# Altium footprint library Trans_pcb.PcbLib: 72 footprints (part 4 of 5)
Each footprint in its own frame and in the unit in brackets; x right, y up, seen from the top. Pads: shape width x height; smd on the part's side, far side on the other; paste and mask are expansions set on the pad; w line width, h text height; cw(c..) or ccw(c..) is an arc to the next point about the centre after c.
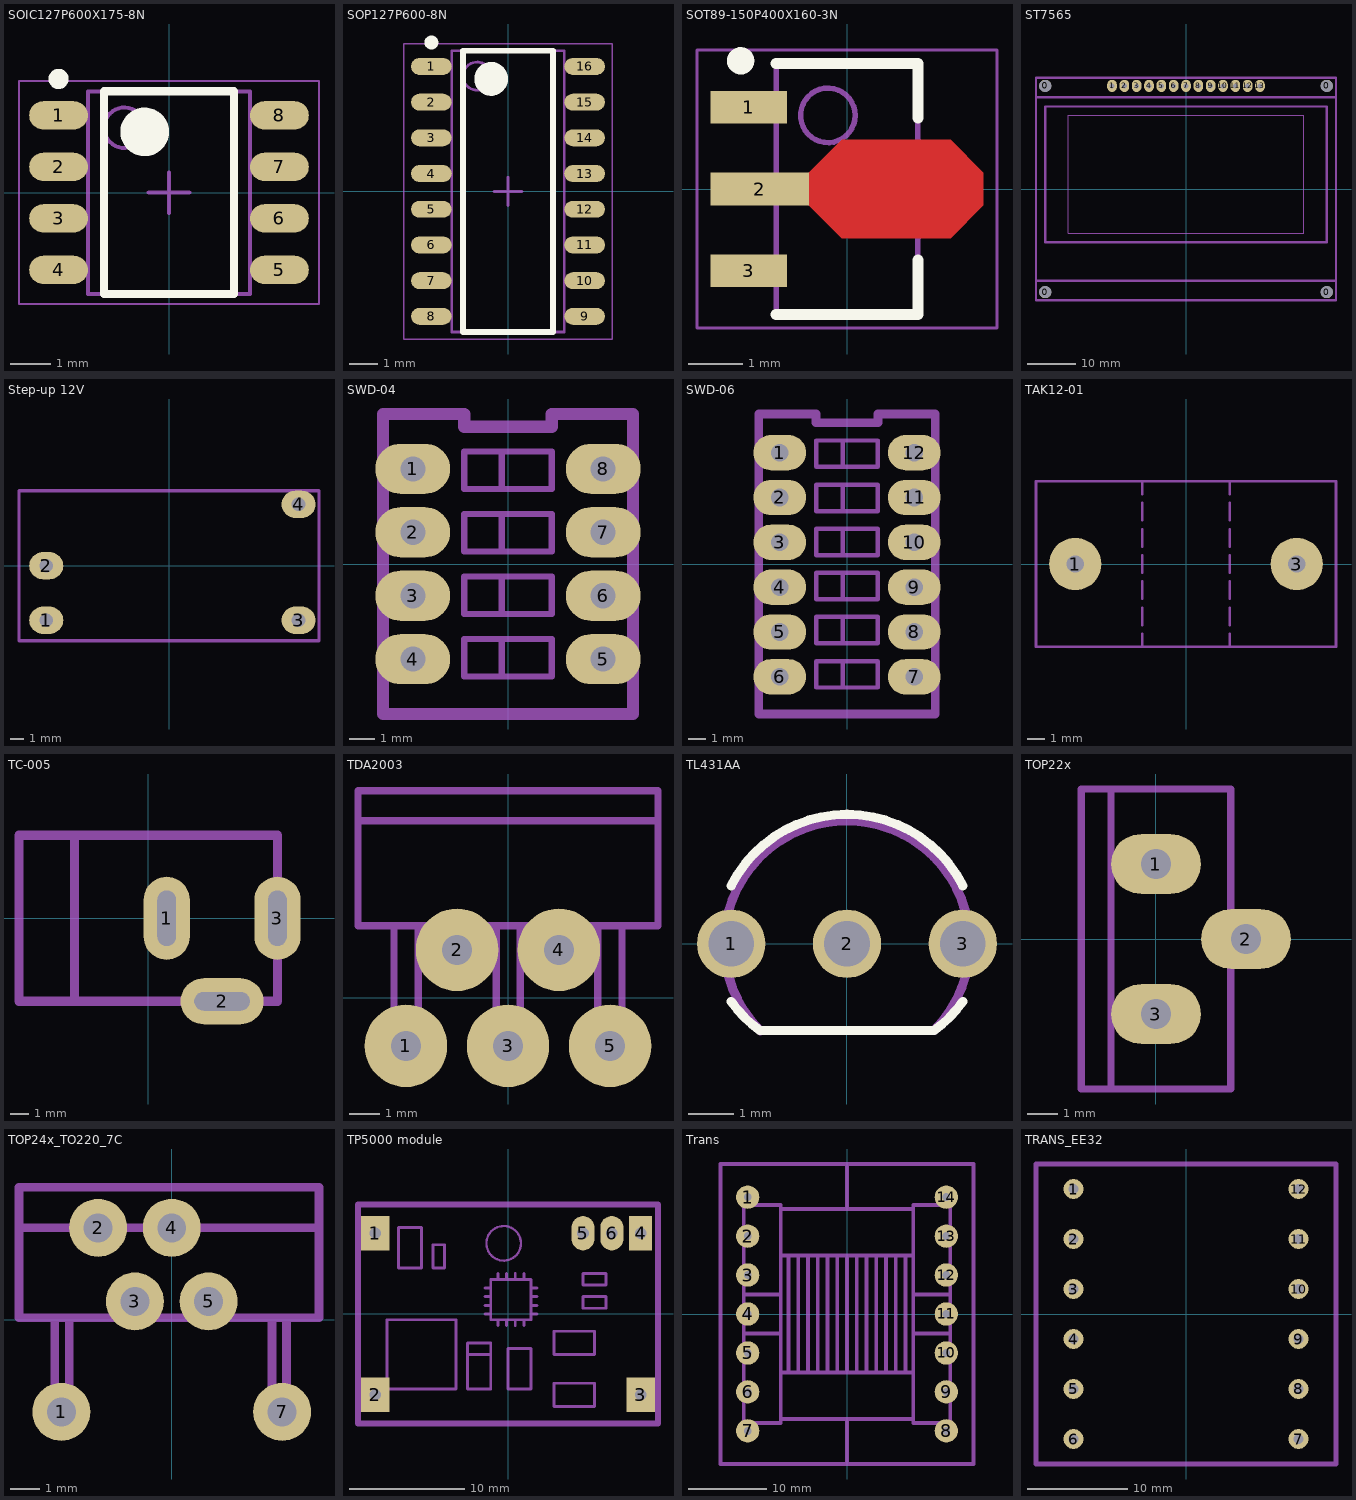
[diagram p3: the footprints below, top view; thin cyan lines are the x and y axes]

## SOIC127P600X175-8N [mm] "SOIC, 8-Leads, Body 4,90x3,90mm, Pitch 1,27mm, IPC Medium Density"
height 1.75
pads (8):
  oval 1.45x0.7 smd: 1(-2.725,1.905) 2(-2.725,0.635) 3(-2.725,-0.635) 4(-2.725,-1.905) 5(2.725,-1.905) 6(2.725,-0.635) 7(2.725,0.635) 8(2.725,1.905)
Top Overlay:
  circle w0.6: c-0.6,1.5 r0.3
  circle w0.25: c-2.725,2.805 r0.125
  lines w0.2: -1.6,-2.5 1.6,-2.5 1.6,2.5 -1.6,2.5 -1.6,-2.5
Mechanical 13:
  circle w0.1: c-1.1,1.6 r0.5
  lines w0.1: -2,-2.5 2,-2.5 2,2.5 -2,2.5 -2,-2.5
Mechanical 15:
  lines w0.05: -3.7,-2.75 3.7,-2.75 3.7,2.75 -3.7,2.75 -3.7,-2.75
  lines w0.1: -0.5,0 0.5,0 ; 0,-0.5 0,0.5
3D body: height 1.75, standoff 0.1, extent -2,-2.5 2,2.5

## SOP127P600-8N [mm] "TEA1751"
height 1.75
pads (16):
  oval 1.45x0.6 smd: 1(-2.725,4.445) 2(-2.725,3.175) 3(-2.725,1.905) 4(-2.725,0.635) 5(-2.725,-0.635) 6(-2.725,-1.905) 7(-2.725,-3.175) 8(-2.725,-4.445) 9(2.725,-4.445) 10(2.725,-3.175) 11(2.725,-1.905) 12(2.725,-0.635) 13(2.725,0.635) 14(2.725,1.905) 15(2.725,3.175) 16(2.725,4.445)
Top Overlay:
  circle w0.25: c-2.725,5.295 r0.125
  circle w0.6: c-0.6,4 r0.3
  lines w0.2: -1.6,-5 -1.6,5 1.6,5 1.6,-5 -1.6,-5
Mechanical 13:
  circle w0.1: c-1.1,4.1 r0.5
  lines w0.1: -2,-5 -2,5 2,5 2,-5 -2,-5
Mechanical 15:
  lines w0.05: -3.7,-5.25 -3.7,5.25 3.7,5.25 3.7,-5.25 -3.7,-5.25
  lines w0.1: -0.5,0 0.5,0 ; 0,-0.5 0,0.5
3D body: height 1.75, standoff 0.1, extent -2,-5 2,5

## SOT89-150P400X160-3N [mm] "SOT89, 3-Leads, Body 4,50x2,50mm, Pitch 1,50mm, Lead Span 4,0mm, IPC Medium Density"
height 1.6
pads (3):
  rect 1.4x0.6 smd: 1(-1.8,1.5) 3(-1.8,-1.5)
  rect 1.8x0.6 smd: 2(-1.6,0)
Top Layer:
  region: -0.7,0.3 -0.1,0.9 1.9,0.9 2.5,0.3 2.5,-0.3 1.9,-0.9 -0.1,-0.9 -0.7,-0.3
Top Overlay:
  circle w0.25: c-1.95,2.35 r0.125
  lines w0.2: -1.3,-2.3 1.3,-2.3 1.3,-1.3 ; -1.3,2.3 1.3,2.3 1.3,1.3
Mechanical 13:
  circle w0.1: c-0.35,1.35 r0.5
  lines w0.1: -1.3,-2.3 1.3,-2.3 1.3,2.3 -1.3,2.3 -1.3,-2.3
Mechanical 15:
  lines w0.05: -2.75,-2.55 2.75,-2.55 2.75,2.55 -2.75,2.55 -2.75,-2.55
  lines w0.1: -0.5,0 0.5,0 ; 0,-0.5 0,0.5
3D body: height 1.6, standoff 0, extent -1.3,-2.3 1.3,2.3

## ST7565 [mm]
pads (17):
  round 2.5 hole 2.5: 0(-29,-21.25) 0(-29,21.25) 0(29,-21.25) 0(29,21.25)
  oval 2x2.5 hole 1: 1(-15.24,21.25) 2(-12.7,21.25) 3(-10.16,21.25) 4(-7.62,21.25) 5(-5.08,21.25) 6(-2.54,21.25) 7(0,21.25) 8(2.54,21.25) 9(5.08,21.25) 10(7.62,21.25) 11(10.16,21.25) 12(12.7,21.25) 13(15.24,21.25)
Mechanical 13:
  lines w0.25: -24.3,-9.1 -24.3,15.2 24.3,15.2 24.3,-9.1 -24.3,-9.1
  lines w0.5: -30.9,-18.9 30.9,-18.9 ; -30.9,18.9 30.9,18.9 ; -30.9,-22.9 30.9,-22.9 30.9,22.9 -30.9,22.9 -30.9,-22.9 ; -29,-11 29,-11 29,17 -29,17 -29,-11

## Step-up 12V [mm]
pads (4):
  oval 2.5x2 hole 1: 1(-9,-4) 2(-9,0) 3(9.5,-4) 4(9.5,4.5)
Mechanical 13:
  lines w0.25: -11,-5.5 -11,5.5 11,5.5 11,-5.5 -11,-5.5

## SWD-04 [mm]
height 6.9
pads (8):
  oval 3x2 hole 1 unplated: 1(-3.81,3.81) 2(-3.81,1.27) 3(-3.81,-1.27) 4(-3.81,-3.81) 5(3.81,-3.81) 6(3.81,-1.27) 7(3.81,1.27) 8(3.81,3.81)
Mechanical 13:
  lines w0.25: -0.25,-4.5 -0.25,-3 ; -0.25,-2 -0.25,-0.5 ; -0.25,0.5 -0.25,2 ; -0.25,3 -0.25,4.5 ; -1.75,-4.5 -1.75,-3 1.75,-3 1.75,-4.5 -1.75,-4.5 ; -1.75,-2 -1.75,-0.5 1.75,-0.5 1.75,-2 -1.75,-2 ; -1.75,0.5 -1.75,2 1.75,2 1.75,0.5 -1.75,0.5 ; -1.75,3 -1.75,4.5 1.75,4.5 1.75,3 -1.75,3
  lines w0.5: -5,-6 5,-6 5,6 1.75,6 1.75,5.5 -1.75,5.5 -1.75,6 -5,6 -5,-6

## SWD-06 [mm]
height 6.9
pads (12):
  oval 3x2 hole 1 unplated: 1(-3.81,6.31) 2(-3.81,3.77) 3(-3.81,1.23) 4(-3.81,-1.31) 5(-3.81,-3.85) 6(-3.81,-6.39) 7(3.81,-6.39) 8(3.81,-3.85) 9(3.81,-1.31) 10(3.81,1.23) 11(3.81,3.77) 12(3.81,6.31)
Mechanical 13:
  lines w0.25: -0.25,-7 -0.25,-5.5 ; -0.25,-4.5 -0.25,-3 ; -0.25,-2 -0.25,-0.5 ; -0.25,0.5 -0.25,2 ; -0.25,3 -0.25,4.5 ; -0.25,5.5 -0.25,7 ; -1.75,-7 -1.75,-5.5 1.75,-5.5 1.75,-7 -1.75,-7 ; -1.75,-4.5 -1.75,-3 1.75,-3 1.75,-4.5 -1.75,-4.5 ; -1.75,-2 -1.75,-0.5 1.75,-0.5 1.75,-2 -1.75,-2 ; -1.75,0.5 -1.75,2 1.75,2 1.75,0.5 -1.75,0.5 ; -1.75,3 -1.75,4.5 1.75,4.5 1.75,3 -1.75,3 ; -1.75,5.5 -1.75,7 1.75,7 1.75,5.5 -1.75,5.5
  lines w0.5: -5,-8.5 5,-8.5 5,8.5 1.75,8.5 1.75,8 -1.75,8 -1.75,8.5 -5,8.5 -5,-8.5

## TAK12-01 [mm]
height 20.4
pads (2):
  round 3 hole 1: 1(-6.35,0) 3(6.35,0)
Mechanical 13:
  lines w0.15: -2.5,-4.75 -2.5,-4 ; -2.5,-3.5 -2.5,-2.5 ; -2.5,-2 -2.5,-1 ; -2.5,-0.5 -2.5,0.5 ; -2.5,1 -2.5,2 ; -2.5,2.5 -2.5,3.5 ; -2.5,4 -2.5,4.75 ; 2.5,-4.75 2.5,-4 ; 2.5,-3.5 2.5,-2.5 ; 2.5,-2 2.5,-1 ; 2.5,-0.5 2.5,0.5 ; 2.5,1 2.5,2 ; 2.5,2.5 2.5,3.5 ; 2.5,4 2.5,4.75 ; -8.6,-4.75 -8.6,4.75 8.6,4.75 8.6,-4.75 -8.6,-4.75

## TC-005 [mm]
height 10
pads (3):
  oval 2.5x4.5 hole 1 slot 3 at 90 deg unplated: 1(1,0) 3(7,0)
  oval 4.5x2.5 hole 1 slot 3 at 0 deg unplated: 2(4,-4.5)
Mechanical 13:
  lines w0.5: -4,-4.5 -4,4.5 ; -7,-4.5 -7,4.5 7,4.5 7,-4.5 -7,-4.5

## TDA2003 [mm]
pads (5):
  round 2.75 hole 1: 1(-3.4,-1.6) 2(-1.7,1.6) 3(0,-1.6) 4(1.7,1.6) 5(3.4,-1.6)
Mechanical 1:
  lines w0.25: -3.8,2.4 -3.8,-1.6 -3,-1.6 -3,2.4 ; -2.1,2.4 -2.1,1.5 -1.3,1.5 -1.3,2.4 ; -0.4,2.4 -0.4,-1.65 0.4,-1.65 0.4,2.3 ; 1.3,2.4 1.3,1.5 2.1,1.5 2.1,2.4 ; 3,2.4 3,-1.6 3.8,-1.6 3.8,2.4
Mechanical 13:
  lines w0.25: -5,5.9 5,5.9 ; -5,2.4 5,2.4 5,6.9 -5,6.9 -5,2.4

## TL431AA [mm]
height 5
pads (3):
  round 1.5 hole 1: 1(-2.54,0) 2(0,0) 3(2.54,0)
Top Overlay:
  lines w0.2: -2.541,-1.269 ccw(c-0.317,0.318) -1.904,-1.906 ; -2.539,1.272 cw(c0,0) 2.539,1.272 ; -1.905,-1.905 1.905,-1.905 ; 1.904,-1.906 ccw(c0.318,0.318) 2.541,-1.269
  text ".Designator" at -2.75,-3.75 h1.5
Mechanical 13:
  lines w0.2: -1.905,-1.905 1.905,-1.905 ; -1.902,-1.908 cw(c0,0) 1.908,-1.902
3D body "TO-92.STEP": height 6.5, standoff -2.2, extent -2.599,-1.923 2.599,2.6

## TOP22x [mm]
height 20
pads (3):
  oval 3x2 hole 1 unplated: 1(0,2.5) 2(3,0) 3(0,-2.5)
Mechanical 13:
  lines w0.25: -1.5,-5 -1.5,5 ; -2.5,-5 -2.5,5 2.5,5 2.5,-5 -2.5,-5

## TOP24x_TO220_7C [mm]
pads (6):
  round 2 hole 1: 1(-3.81,-3.175) 2(-2.54,3.175) 3(-1.27,0.635) 4(0,3.175) 5(1.27,0.635) 7(3.81,-3.175)
Mechanical 13:
  lines w0.3: -5.27,3.175 5.08,3.175 ; -4.04,0.075 -4.04,-3.325 -3.54,-3.325 -3.54,0.075 ; 3.46,0.075 3.46,-3.325 3.96,-3.325 3.96,0.075 ; -5.27,0.075 -5.27,4.575 5.08,4.575 5.08,0.075 -5.27,0.075

## TP5000 module [mm]
height 4.5
pads (6):
  rect 2.5x3 hole 1 unplated: 1(-11.5,7) 2(-11.5,-7) 3(11.5,-7)
  rect 2x3 hole 1 unplated: 4(11.5,7)
  oval 2x3 hole 1 unplated: 5(6.5,7) 6(9,7)
Mechanical 13:
  circle w0.2: c-0.375,6.125 r1.5
  lines w0.25: -3.5,-3.5 -1.5,-3.5 ; -2,0 -1.5,0 ; -2,0.75 -1.5,0.75 ; -2,1.5 -1.5,1.5 ; -2,2.25 -1.5,2.25 ; -0.875,-1 -0.875,-0.5 ; -0.875,3 -0.875,3.5 ; -0.125,-1 -0.125,-0.5 ; -0.125,3 -0.125,3.5 ; 0.625,-1 0.625,-0.5 ; 0.625,3 0.625,3.5 ; 1.375,-1 1.375,-0.5 ; 1.375,3 1.375,3.5 ; 2,0 2.5,0 ; 2,0.75 2.5,0.75 ; 2,1.5 2.5,1.5 ; 2,2.25 2.5,2.25 ; -10.5,-6.5 -10.5,-0.5 -4.5,-0.5 -4.5,-6.5 -10.5,-6.5 ; -9.5,4 -9.5,7.5 -7.5,7.5 -7.5,4 -9.5,4 ; -6.5,4 -6.5,6 -5.5,6 -5.5,4 -6.5,4 ; -3.5,-6.5 -3.5,-2.5 -1.5,-2.5 -1.5,-6.5 -3.5,-6.5 ; -1.5,-0.5 -1.5,3 2,3 2,-0.5 -1.5,-0.5 ; 0,-6.5 0,-3 2,-3 2,-6.5 0,-6.5 ; 4,-8 7.5,-8 7.5,-6 4,-6 4,-8 ; 4,-3.5 7.5,-3.5 7.5,-1.5 4,-1.5 4,-3.5 ; 6.5,0.5 8.5,0.5 8.5,1.5 6.5,1.5 6.5,0.5 ; 6.5,2.5 8.5,2.5 8.5,3.5 6.5,3.5 6.5,2.5
  lines w0.5: -13,-9.5 -13,9.5 13,9.5 13,-9.5 -13,-9.5

## Trans [mm]
height 35
pads (14):
  round 3 hole 1: 1(-12.75,15) 2(-12.75,10) 3(-12.75,5) 4(-12.75,0) 5(-12.75,-5) 6(-12.75,-10) 7(-12.75,-15) 8(12.75,-15) 9(12.75,-10) 10(12.75,-5) 11(12.75,0) 12(12.75,5) 13(12.75,10) 14(12.75,15)
Mechanical 13:
  lines w0.5: -13.25,-2.5 -8.5,-2.5 ; -13.25,2.5 -8.5,2.5 ; -8.5,7.25 -8.5,13.5 ; -7.5,-7.5 -7.5,7.5 ; -6.25,-7.5 -6.25,7.5 ; -5,-7.5 -5,7.5 ; -3.75,-7.5 -3.75,7.5 ; -2.5,-7.5 -2.5,7.5 ; -1.25,-7.5 -1.25,7.5 ; 0,-19.25 0,-13.5 ; 0,-7.5 0,7.5 ; 0,13.5 0,19.25 ; 1.25,-7.5 1.25,7.5 ; 2.5,-7.5 2.5,7.25 ; 3.75,-7.5 3.75,7.5 ; 5,-7.5 5,7.5 ; 6.25,-7.492 6.25,7.5 ; 7.5,-7.5 7.5,7.5 ; 8.5,-2.5 13.25,-2.5 ; 8.75,2.5 13,2.5 ; -8.5,-13.5 -8.5,-14 -13.25,-14 -13.25,14 -8.5,14 -8.5,13.5 ; -8.5,-13.5 -8.5,-7.5 ; -8.5,-13.5 8.5,-13.5 ; -8.5,-7.5 8.5,-7.5 ; -8.5,-7.5 -8.5,7.5 8.5,7.5 ; -8.5,13.5 8.5,13.5 ; 8.5,-13.5 8.5,-14 13.25,-14 13.25,14 8.5,14 8.5,13.5 ; 8.5,-13.5 8.5,-7.5 ; 8.5,-7.5 8.5,7.5 ; 8.5,7.5 8.5,13.5 ; -16.25,-19.25 16.25,-19.25 16.25,19.25 -16.25,19.25 -16.25,-19.25

## TRANS_EE32 [mm]
height 32
pads (12):
  round 2 hole 1: 1(-11.25,12.5) 2(-11.25,7.5) 3(-11.25,2.5) 4(-11.25,-2.5) 5(-11.25,-7.5) 6(-11.25,-12.5) 7(11.25,-12.5) 8(11.25,-7.5) 9(11.25,-2.5) 10(11.25,2.5) 11(11.25,7.5) 12(11.25,12.5)
Mechanical 13:
  lines w0.5: -15,-15 15,-15 15,15 -15,15 -15,-15